# Altium footprint library Footrprints.PcbLib: 9 footprints
Each footprint in its own frame and in the unit in brackets; x right, y up, seen from the top. Pads: shape width x height; smd on the part's side, far side on the other; paste and mask are expansions set on the pad; w line width, h text height; cw(c..) or ccw(c..) is an arc to the next point about the centre after c.
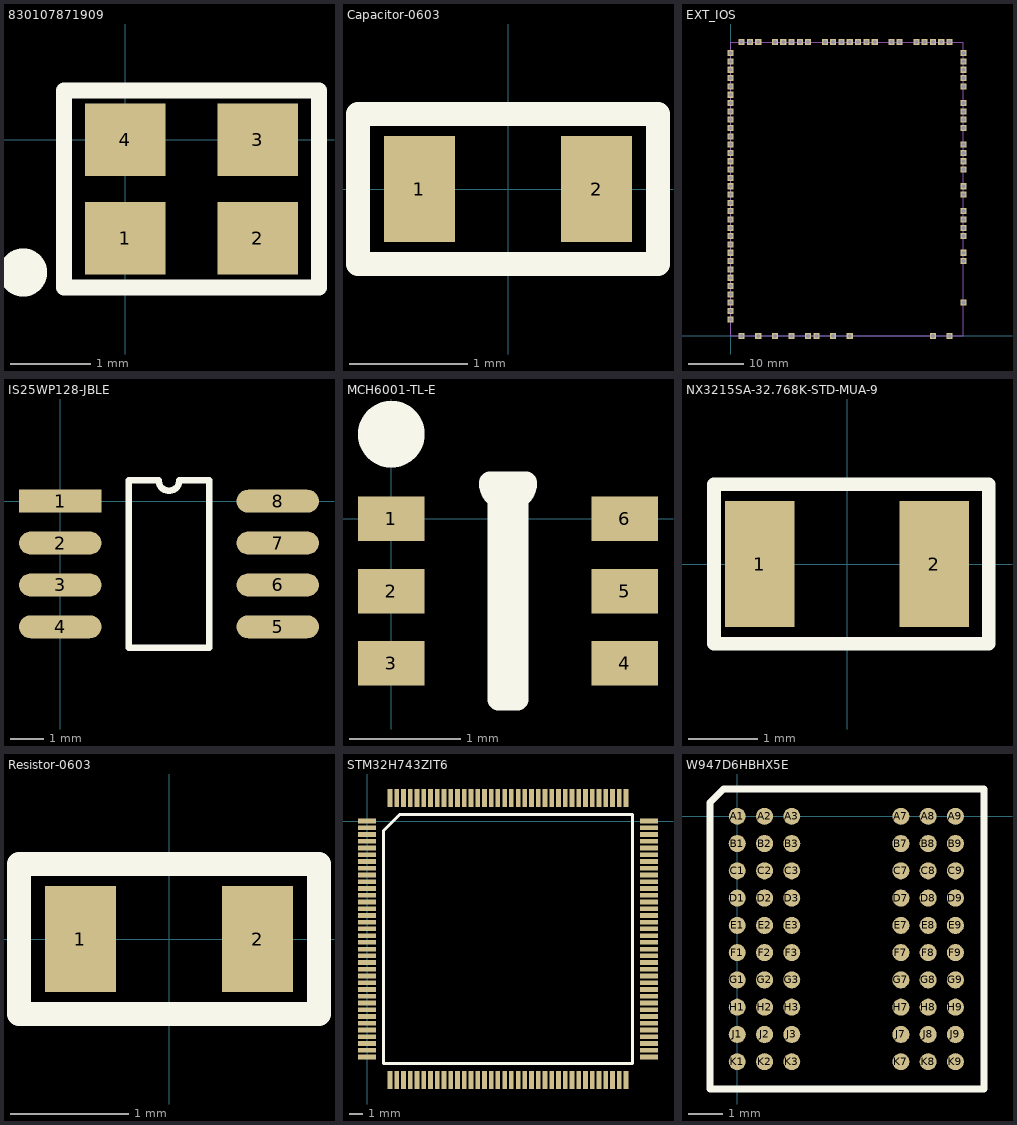
[diagram p0: the footprints below, top view; thin cyan lines are the x and y axes]

## 830107871909 [mm]
pads (4):
  rect 1x0.9 smd: 1(0,-1.225) 2(1.65,-1.225) 3(1.65,0) 4(0,0)
Top Overlay:
  circle w0.5: c-1.27,-1.651 r0.05
  lines w0.2: 0.519,0.612 2.413,0.612 2.413,-1.837 -0.762,-1.837 -0.762,0.612 1.131,0.612

## Capacitor-0603 [mm]
pads (2):
  rect 0.6x0.9 smd: 1(-0.75,0) 2(0.75,0)
Top Overlay:
  lines w0.2: -1.27,-0.635 -1.27,0.635 1.27,0.635 1.27,-0.635 -1.27,-0.635
3D body "Ceramic_Capacitor_0603_h32mil.step": height 0.81, standoff 0.01, extent -0.8,-0.4 0.8,0.4

## EXT_IOS [mm]
pads (87):
  rect 1.1x1.1 hole 0.7 mask+0.102: 1(2,53) 2(3.5,53) 3(5,53) 4(8,53) 5(9.5,53) 6(11,53) 7(12.5,53) 8(14,53) 9(17,53) 10(18.5,53) 11(20,53) 12(21.5,53) 13(23,53) 14(24.5,53) 15(26,53) 16(29,53) 17(30.5,53) 18(33.5,53) 19(35,53) 20(36.5,53) 21(38,53) 22(39.5,53) 23(42,51) 24(42,49.5) 25(42,48) 26(42,46.5) 27(42,45) 28(42,42) 29(42,40.5) 30(42,39) 31(42,37.5) 32(42,34.5) 33(42,33) 34(42,31.5) 35(42,30) 36(42,27) 37(42,25.5) 38(42,22.5) 39(42,21) 40(42,19.5) 41(42,18) 42(42,15) 43(42,13.5) 44(42,6) 45(39.5,0) 46(36.5,0) 47(21.5,0) 48(18.5,0) 49(15.5,0) 50(14,0) 51(11,0) 52(8,0) 53(5,0) 54(2,0) 55(0,3) 56(0,4.5) 57(0,6) 58(0,7.5) 59(0,9) 60(0,10.5) 61(0,12) 62(0,13.5) 63(0,15) 64(0,16.5) 65(0,18) 66(0,19.5) 67(0,21) 68(0,22.5) 69(0,24) 70(0,25.5) 71(0,27) 72(0,28.5) 73(0,30) 74(0,31.5) 75(0,33) 76(0,34.5) 77(0,36) 78(0,37.5) 79(0,39) 80(0,40.5) 81(0,42) 82(0,43.5) 83(0,45) 84(0,46.5) 85(0,48) 86(0,49.5) 87(0,51)
Mechanical 1:
  lines w0.2: 0,0 0,53 42,53 42,0 0,0

## IS25WP128-JBLE [mm]
height 2.16
pads (8):
  rect 2.5x0.7 smd: 1(0,0)
  oval 2.5x0.7 smd: 2(0,-1.27) 3(0,-2.54) 4(0,-3.81) 5(6.6,-3.81) 6(6.6,-2.54) 7(6.6,-1.27) 8(6.6,0)
Top Overlay:
  lines w0.2: 2.085,-4.445 4.515,-4.445 4.515,0.635 3.617,0.635 cw(c3.3,0.635) 2.982,0.635 2.085,0.635 2.085,-4.445
3D body "IS25WP128-JBLE.stp": height 2.16, standoff 0, extent -0.64,-4.55 7.26,0.73

## MCH6001-TL-E [mm]
pads (6):
  rect 0.6x0.4 smd: 1(0,0) 2(0,-0.65) 3(0,-1.3) 4(2.1,-1.3) 5(2.1,-0.65) 6(2.1,0)
Top Overlay:
  circle w0.5: c0,0.762 r0.05
  lines w0.2: 0.888,0.325 ccw(c1.05,0.325) 1.212,0.325 0.965,0.325 0.965,-1.625 1.135,-1.625 1.135,0.325 0.888,0.325

## NX3215SA-32.768K-STD-MUA-9 [mm]
pads (2):
  rect 1x1.8 smd: 1(-1.25,0) 2(1.25,0)
Top Overlay:
  lines w0.2: -1.905,-1.143 2.032,-1.143 2.032,1.143 -1.905,1.143 -1.905,0.945 -1.905,-1.143

## Resistor-0603 [mm]
pads (2):
  rect 0.6x0.9 smd: 1(-0.75,0) 2(0.75,0)
Top Overlay:
  lines w0.2: -1.27,-0.635 1.27,-0.635 1.27,0.635 -1.27,0.635 -1.27,-0.635
3D body "Resistor_0603_Text.step": height 0.47, standoff 0.01, extent -0.8,-0.4 0.8,0.4

## STM32H743ZIT6 [mm]
pads (144):
  rect 1.35x0.35 smd: 1(0,0) 2(0,-0.5) 3(0,-1) 4(0,-1.5) 5(0,-2) 6(0,-2.5) 7(0,-3) 8(0,-3.5) 9(0,-4) 10(0,-4.5) 11(0,-5) 12(0,-5.5) 13(0,-6) 14(0,-6.5) 15(0,-7) 16(0,-7.5) 17(0,-8) 18(0,-8.5) 19(0,-9) 20(0,-9.5) 21(0,-10) 22(0,-10.5) 23(0,-11) 24(0,-11.5) 25(0,-12) 26(0,-12.5) 27(0,-13) 28(0,-13.5) 29(0,-14) 30(0,-14.5) 31(0,-15) 32(0,-15.5) 33(0,-16) 34(0,-16.5) 35(0,-17) 36(0,-17.5) 73(20.9,-17.5) 74(20.9,-17) 75(20.9,-16.5) 76(20.9,-16) 77(20.9,-15.5) 78(20.9,-15) 79(20.9,-14.5) 80(20.9,-14) 81(20.9,-13.5) 82(20.9,-13) 83(20.9,-12.5) 84(20.9,-12) 85(20.9,-11.5) 86(20.9,-11) 87(20.9,-10.5) 88(20.9,-10) 89(20.9,-9.5) 90(20.9,-9) 91(20.9,-8.5) 92(20.9,-8) 93(20.9,-7.5) 94(20.9,-7) 95(20.9,-6.5) 96(20.9,-6) 97(20.9,-5.5) 98(20.9,-5) 99(20.9,-4.5) 100(20.9,-4) 101(20.9,-3.5) 102(20.9,-3) 103(20.9,-2.5) 104(20.9,-2) 105(20.9,-1.5) 106(20.9,-1) 107(20.9,-0.5) 108(20.9,0)
  rect 0.35x1.35 smd: 37(1.7,-19.2) 38(2.2,-19.2) 39(2.7,-19.2) 40(3.2,-19.2) 41(3.7,-19.2) 42(4.2,-19.2) 43(4.7,-19.2) 44(5.2,-19.2) 45(5.7,-19.2) 46(6.2,-19.2) 47(6.7,-19.2) 48(7.2,-19.2) 49(7.7,-19.2) 50(8.2,-19.2) 51(8.7,-19.2) 52(9.2,-19.2) 53(9.7,-19.2) 54(10.2,-19.2) 55(10.7,-19.2) 56(11.2,-19.2) 57(11.7,-19.2) 58(12.2,-19.2) 59(12.7,-19.2) 60(13.2,-19.2) 61(13.7,-19.2) 62(14.2,-19.2) 63(14.7,-19.2) 64(15.2,-19.2) 65(15.7,-19.2) 66(16.2,-19.2) 67(16.7,-19.2) 68(17.2,-19.2) 69(17.7,-19.2) 70(18.2,-19.2) 71(18.7,-19.2) 72(19.2,-19.2) 109(19.2,1.7) 110(18.7,1.7) 111(18.2,1.7) 112(17.7,1.7) 113(17.2,1.7) 114(16.7,1.7) 115(16.2,1.7) 116(15.7,1.7) 117(15.2,1.7) 118(14.7,1.7) 119(14.2,1.7) 120(13.7,1.7) 121(13.2,1.7) 122(12.7,1.7) 123(12.2,1.7) 124(11.7,1.7) 125(11.2,1.7) 126(10.7,1.7) 127(10.2,1.7) 128(9.7,1.7) 129(9.2,1.7) 130(8.7,1.7) 131(8.2,1.7) 132(7.7,1.7) 133(7.2,1.7) 134(6.7,1.7) 135(6.2,1.7) 136(5.7,1.7) 137(5.2,1.7) 138(4.7,1.7) 139(4.2,1.7) 140(3.7,1.7) 141(3.2,1.7) 142(2.7,1.7) 143(2.2,1.7) 144(1.7,1.7)
Top Overlay:
  lines w0.2: 1.21,-17.99 19.69,-17.99 19.69,0.49 2.42,0.49 1.21,-0.72 1.21,-17.99
3D body "STM32H743ZIT6.stp": height 1.6, standoff 0, extent -0.5,-19.8 21.5,2.2

## W947D6HBHX5E [mm]
height 1.03
pads (60):
  round 0.5 smd: A1(0,0) A2(0.8,0) A3(1.6,0) A7(4.8,0) A8(5.6,0) A9(6.4,0) B1(0,-0.8) B2(0.8,-0.8) B3(1.6,-0.8) B7(4.8,-0.8) B8(5.6,-0.8) B9(6.4,-0.8) C1(0,-1.6) C2(0.8,-1.6) C3(1.6,-1.6) C7(4.8,-1.6) C8(5.6,-1.6) C9(6.4,-1.6) D1(0,-2.4) D2(0.8,-2.4) D3(1.6,-2.4) D7(4.8,-2.4) D8(5.6,-2.4) D9(6.4,-2.4) E1(0,-3.2) E2(0.8,-3.2) E3(1.6,-3.2) E7(4.8,-3.2) E8(5.6,-3.2) E9(6.4,-3.2) F1(0,-4) F2(0.8,-4) F3(1.6,-4) F7(4.8,-4) F8(5.6,-4) F9(6.4,-4) G1(0,-4.8) G2(0.8,-4.8) G3(1.6,-4.8) G7(4.8,-4.8) G8(5.6,-4.8) G9(6.4,-4.8) H1(0,-5.6) H2(0.8,-5.6) H3(1.6,-5.6) H7(4.8,-5.6) H8(5.6,-5.6) H9(6.4,-5.6) J1(0,-6.4) J2(0.8,-6.4) J3(1.6,-6.4) J7(4.8,-6.4) J8(5.6,-6.4) J9(6.4,-6.4) K1(0,-7.2) K2(0.8,-7.2) K3(1.6,-7.2) K7(4.8,-7.2) K8(5.6,-7.2) K9(6.4,-7.2)
Top Overlay:
  lines w0.2: -0.8,-8 7.239,-8 7.239,0.8 -0.4,0.8 -0.8,0.4 -0.8,-8
3D body "WIN_VFBGA-60_WIN.step": height 1.02, standoff 0, extent -0.851,-8.147 7.251,0.947